# Altium footprint library Symbol.PcbLib: 206 footprints (part 3 of 15)
Each footprint in its own frame and in the unit in brackets; x right, y up, seen from the top. Pads: shape width x height; smd on the part's side, far side on the other; paste and mask are expansions set on the pad; w line width, h text height; cw(c..) or ccw(c..) is an arc to the next point about the centre after c.
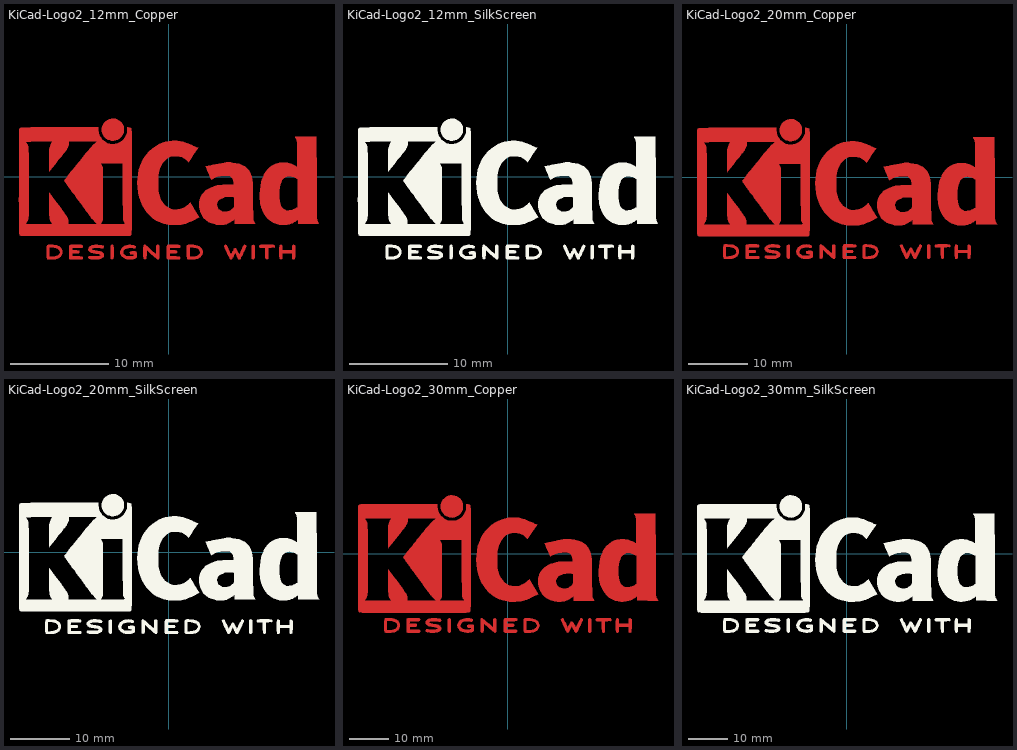
[diagram p2: the footprints below, top view; thin cyan lines are the x and y axes]

## KiCad-Logo2_12mm_Copper [mm]
F.Cu:
  region: 8.62,-6.931 8.667,-6.96 8.721,-7.004 8.721,-7.65 8.721,-7.839 8.72,-7.988 8.718,-8.102 8.715,-8.186 8.711,-8.246 8.705,-8.288 8.696,-8.315 8.685,-8.334 8.678,-8.343 8.614,-8.385 8.543,-8.383 8.48,-8.348 8.426,-8.305 8.426,-7.004 8.48,-6.96 8.531,-6.929 8.573,-6.917
  region: -5.669,-6.962 -5.656,-6.978 -5.645,-6.997 -5.637,-7.027 -5.632,-7.071 -5.628,-7.135 -5.625,-7.225 -5.624,-7.346 -5.623,-7.502 -5.623,-7.654 -5.624,-7.843 -5.624,-7.991 -5.626,-8.105 -5.628,-8.189 -5.633,-8.248 -5.639,-8.289 -5.647,-8.316 -5.658,-8.334 -5.669,-8.346 -5.735,-8.385 -5.806,-8.382 -5.869,-8.339 -5.883,-8.322 -5.895,-8.302 -5.903,-8.275 -5.91,-8.234 -5.914,-8.174 -5.916,-8.089 -5.918,-7.975 -5.918,-7.826 -5.918,-7.657 -5.918,-7.028 -5.863,-6.973 -5.794,-6.926 -5.727,-6.924
  region: -5.423,5.895 -5.218,5.824 -5.027,5.712 -4.856,5.559 -4.712,5.366 -4.648,5.244 -4.592,5.073 -4.565,4.876 -4.568,4.674 -4.601,4.49 -4.692,4.266 -4.824,4.072 -4.991,3.911 -5.185,3.787 -5.399,3.705 -5.628,3.667 -5.865,3.679 -5.981,3.704 -6.208,3.792 -6.41,3.927 -6.582,4.104 -6.718,4.319 -6.729,4.343 -6.769,4.431 -6.794,4.505 -6.808,4.583 -6.813,4.684 -6.814,4.793 -6.813,4.925 -6.806,5.019 -6.79,5.096 -6.762,5.173 -6.728,5.249 -6.599,5.464 -6.441,5.638 -6.259,5.771 -6.06,5.863 -5.85,5.915 -5.636,5.925
  region: 10.175,-6.917 10.334,-6.918 10.456,-6.92 10.549,-6.922 10.616,-6.926 10.662,-6.932 10.693,-6.94 10.713,-6.949 10.723,-6.957 10.775,-7.022 10.781,-7.09 10.749,-7.152 10.728,-7.176 10.706,-7.193 10.674,-7.204 10.623,-7.209 10.545,-7.211 10.431,-7.212 10.409,-7.212 10.116,-7.212 10.116,-7.756 10.115,-7.928 10.114,-8.06 10.112,-8.158 10.109,-8.228 10.103,-8.277 10.095,-8.308 10.084,-8.33 10.07,-8.346 10.004,-8.386 9.935,-8.383 9.872,-8.337 9.868,-8.331 9.853,-8.31 9.841,-8.285 9.833,-8.251 9.827,-8.2 9.824,-8.128 9.822,-8.028 9.821,-7.894 9.821,-7.742 9.821,-7.212 9.541,-7.212 9.421,-7.211 9.337,-7.208 9.283,-7.201 9.249,-7.19 9.226,-7.173 9.223,-7.17 9.19,-7.104 9.193,-7.028 9.231,-6.962 9.246,-6.95 9.265,-6.94 9.293,-6.932 9.335,-6.926 9.397,-6.922 9.483,-6.919 9.598,-6.918 9.748,-6.917 9.937,-6.917 9.977,-6.917
  region: 12.718,-6.928 12.781,-6.973 12.837,-7.028 12.837,-7.65 12.837,-7.835 12.836,-7.979 12.835,-8.09 12.832,-8.171 12.827,-8.229 12.82,-8.27 12.811,-8.298 12.799,-8.319 12.79,-8.331 12.728,-8.381 12.657,-8.386 12.593,-8.356 12.571,-8.338 12.557,-8.314 12.548,-8.276 12.544,-8.215 12.542,-8.122 12.542,-8.05 12.542,-7.779 11.544,-7.779 11.544,-8.025 11.543,-8.138 11.539,-8.215 11.53,-8.268 11.515,-8.305 11.497,-8.331 11.435,-8.381 11.365,-8.387 11.298,-8.352 11.279,-8.333 11.266,-8.309 11.258,-8.271 11.253,-8.212 11.25,-8.124 11.249,-8 11.249,-7.972 11.248,-7.738 11.247,-7.545 11.248,-7.389 11.249,-7.266 11.251,-7.171 11.254,-7.101 11.259,-7.05 11.265,-7.015 11.273,-6.991 11.284,-6.975 11.295,-6.962 11.359,-6.923 11.426,-6.928 11.489,-6.973 11.514,-7.002 11.53,-7.033 11.539,-7.079 11.543,-7.148 11.544,-7.252 11.544,-7.256 11.544,-7.484 12.542,-7.484 12.542,-7.246 12.543,-7.136 12.547,-7.062 12.556,-7.014 12.571,-6.982 12.588,-6.962 12.652,-6.923
  region: 2.251,-6.918 2.51,-6.926 2.73,-6.953 2.916,-6.999 3.069,-7.066 3.195,-7.155 3.297,-7.269 3.378,-7.408 3.38,-7.412 3.429,-7.537 3.446,-7.647 3.432,-7.758 3.386,-7.885 3.378,-7.905 3.319,-8.018 3.253,-8.105 3.168,-8.179 3.052,-8.253 3.045,-8.257 2.944,-8.306 2.83,-8.342 2.695,-8.367 2.532,-8.383 2.335,-8.389 2.265,-8.39 1.932,-8.391 1.885,-8.331 1.871,-8.312 1.86,-8.289 1.852,-8.257 1.846,-8.211 1.842,-8.145 1.841,-8.096 1.84,-8.054 1.838,-7.932 1.838,-7.774 1.838,-7.65 1.838,-7.028 1.894,-6.973 1.918,-6.95 1.945,-6.935 1.982,-6.925 2.039,-6.92 2.123,-6.918 2.244,-6.918 hole: 2.155,-7.212 2.155,-8.096 2.344,-8.096 2.454,-8.093 2.568,-8.085 2.661,-8.073 2.666,-8.072 2.831,-8.027 2.959,-7.961 3.055,-7.869 3.121,-7.749 3.132,-7.717 3.144,-7.667 3.139,-7.618 3.115,-7.553 3.101,-7.521 3.054,-7.435 2.997,-7.375 2.935,-7.334 2.811,-7.28 2.651,-7.24 2.466,-7.218 2.331,-7.213
  region: -12.092,-6.917 -12.013,-6.918 -11.781,-6.924 -11.586,-6.94 -11.422,-6.97 -11.283,-7.014 -11.162,-7.074 -11.052,-7.153 -11.013,-7.187 -10.948,-7.267 -10.889,-7.376 -10.844,-7.496 -10.819,-7.612 -10.817,-7.654 -10.833,-7.772 -10.876,-7.901 -10.939,-8.024 -11.013,-8.121 -11.025,-8.133 -11.126,-8.215 -11.238,-8.28 -11.366,-8.328 -11.516,-8.361 -11.695,-8.382 -11.91,-8.39 -12.008,-8.391 -12.133,-8.391 -12.221,-8.388 -12.28,-8.383 -12.319,-8.373 -12.345,-8.358 -12.359,-8.346 -12.372,-8.331 -12.383,-8.311 -12.39,-8.282 -12.396,-8.238 -12.4,-8.173 -12.402,-8.083 -12.404,-7.963 -12.404,-7.806 -12.404,-7.654 -12.405,-7.451 -12.405,-7.289 -12.403,-7.212 -12.402,-7.164 -12.393,-7.07 -12.377,-7.003 -12.35,-6.959 -12.311,-6.933 -12.256,-6.92 -12.184,-6.916 hole: -11.956,-7.212 -12.109,-7.212 -12.109,-8.096 -11.922,-8.096 -11.81,-8.093 -11.692,-8.085 -11.593,-8.073 -11.59,-8.073 -11.431,-8.034 -11.308,-7.974 -11.214,-7.889 -11.155,-7.797 -11.118,-7.694 -11.121,-7.598 -11.163,-7.495 -11.247,-7.389 -11.362,-7.31 -11.513,-7.257 -11.613,-7.238 -11.727,-7.225 -11.848,-7.216 -11.95,-7.212
  region: -2.407,-6.926 -2.359,-6.954 -2.298,-6.999 -2.218,-7.064 -2.117,-7.151 -1.992,-7.263 -1.84,-7.4 -1.666,-7.558 -1.303,-7.887 -1.292,-7.445 -1.288,-7.293 -1.284,-7.18 -1.279,-7.099 -1.273,-7.044 -1.264,-7.008 -1.252,-6.985 -1.236,-6.968 -1.227,-6.96 -1.158,-6.922 -1.092,-6.928 -1.039,-6.96 -0.986,-7.004 -0.979,-7.636 -0.977,-7.823 -0.976,-7.969 -0.976,-8.08 -0.978,-8.163 -0.982,-8.222 -0.988,-8.263 -0.996,-8.292 -1.008,-8.313 -1.02,-8.33 -1.047,-8.362 -1.074,-8.383 -1.105,-8.391 -1.143,-8.384 -1.192,-8.359 -1.256,-8.315 -1.339,-8.249 -1.443,-8.158 -1.574,-8.042 -1.723,-7.908 -2.256,-7.424 -2.267,-7.864 -2.271,-8.016 -2.275,-8.129 -2.28,-8.21 -2.286,-8.265 -2.295,-8.301 -2.307,-8.324 -2.323,-8.341 -2.332,-8.348 -2.406,-8.386 -2.476,-8.38 -2.537,-8.331 -2.551,-8.312 -2.562,-8.289 -2.571,-8.257 -2.576,-8.211 -2.58,-8.145 -2.583,-8.053 -2.584,-7.931 -2.584,-7.772 -2.584,-7.654 -2.584,-7.47 -2.584,-7.326 -2.582,-7.216 -2.579,-7.135 -2.574,-7.078 -2.568,-7.038 -2.558,-7.01 -2.546,-6.989 -2.537,-6.977 -2.515,-6.949 -2.494,-6.927 -2.471,-6.915 -2.443,-6.914
  region: -3.713,-6.928 -3.575,-6.951 -3.469,-6.987 -3.4,-7.035 -3.382,-7.061 -3.363,-7.124 -3.375,-7.181 -3.416,-7.235 -3.479,-7.26 -3.57,-7.258 -3.641,-7.244 -3.798,-7.218 -3.958,-7.216 -4.137,-7.237 -4.187,-7.246 -4.354,-7.293 -4.484,-7.363 -4.577,-7.455 -4.631,-7.567 -4.642,-7.625 -4.635,-7.743 -4.588,-7.847 -4.506,-7.935 -4.392,-8.006 -4.252,-8.058 -4.09,-8.087 -3.909,-8.093 -3.714,-8.073 -3.703,-8.071 -3.626,-8.057 -3.583,-8.043 -3.564,-8.022 -3.56,-7.988 -3.56,-7.969 -3.56,-7.892 -3.697,-7.892 -3.819,-7.884 -3.902,-7.857 -3.95,-7.81 -3.967,-7.741 -3.967,-7.731 -3.957,-7.672 -3.922,-7.629 -3.857,-7.601 -3.756,-7.584 -3.658,-7.578 -3.516,-7.575 -3.413,-7.58 -3.343,-7.6 -3.299,-7.639 -3.276,-7.703 -3.267,-7.799 -3.265,-7.924 -3.268,-8.063 -3.276,-8.158 -3.29,-8.209 -3.293,-8.213 -3.371,-8.276 -3.486,-8.326 -3.63,-8.362 -3.795,-8.383 -3.976,-8.387 -4.164,-8.374 -4.274,-8.357 -4.447,-8.308 -4.608,-8.228 -4.743,-8.124 -4.763,-8.103 -4.83,-8.016 -4.89,-7.908 -4.937,-7.794 -4.963,-7.691 -4.966,-7.651 -4.952,-7.569 -4.917,-7.466 -4.866,-7.358 -4.807,-7.259 -4.754,-7.193 -4.632,-7.095 -4.474,-7.017 -4.285,-6.96 -4.072,-6.927 -3.877,-6.919
  region: 0.668,-6.918 0.821,-6.919 0.939,-6.924 1.025,-6.931 1.085,-6.944 1.124,-6.961 1.146,-6.986 1.155,-7.017 1.158,-7.058 1.158,-7.062 1.156,-7.108 1.146,-7.143 1.124,-7.169 1.084,-7.188 1.02,-7.201 0.929,-7.209 0.804,-7.214 0.64,-7.216 0.589,-7.217 0.103,-7.223 0.096,-7.354 0.089,-7.484 0.427,-7.484 0.559,-7.485 0.653,-7.487 0.717,-7.491 0.759,-7.499 0.786,-7.511 0.805,-7.529 0.841,-7.596 0.839,-7.669 0.802,-7.731 0.795,-7.738 0.769,-7.754 0.733,-7.766 0.68,-7.773 0.602,-7.777 0.49,-7.779 0.418,-7.779 0.092,-7.779 0.092,-8.096 0.587,-8.096 0.751,-8.097 0.875,-8.098 0.966,-8.1 1.029,-8.105 1.071,-8.111 1.098,-8.121 1.116,-8.133 1.12,-8.138 1.152,-8.201 1.155,-8.273 1.128,-8.336 1.107,-8.356 1.085,-8.367 1.051,-8.376 1,-8.382 0.926,-8.386 0.823,-8.389 0.687,-8.391 0.513,-8.391 0.473,-8.391 0.295,-8.391 0.157,-8.39 0.053,-8.389 -0.022,-8.386 -0.074,-8.381 -0.109,-8.374 -0.131,-8.364 -0.148,-8.351 -0.157,-8.342 -0.171,-8.325 -0.181,-8.304 -0.189,-8.275 -0.195,-8.23 -0.199,-8.165 -0.201,-8.075 -0.203,-7.954 -0.203,-7.797 -0.203,-7.664 -0.203,-7.479 -0.202,-7.333 -0.201,-7.222 -0.198,-7.14 -0.193,-7.081 -0.187,-7.04 -0.178,-7.012 -0.166,-6.99 -0.156,-6.977 -0.109,-6.917 0.474,-6.917
  region: -9.263,-6.917 -9.123,-6.918 -9.018,-6.92 -8.941,-6.923 -8.888,-6.928 -8.852,-6.935 -8.827,-6.945 -8.809,-6.957 -8.803,-6.963 -8.763,-7.026 -8.756,-7.097 -8.782,-7.161 -8.794,-7.174 -8.814,-7.186 -8.845,-7.196 -8.894,-7.203 -8.967,-7.209 -9.069,-7.212 -9.207,-7.215 -9.333,-7.217 -9.83,-7.223 -9.837,-7.354 -9.844,-7.484 -9.506,-7.484 -9.359,-7.485 -9.252,-7.491 -9.178,-7.502 -9.131,-7.522 -9.105,-7.553 -9.095,-7.597 -9.093,-7.638 -9.098,-7.688 -9.117,-7.724 -9.155,-7.75 -9.219,-7.766 -9.314,-7.775 -9.446,-7.779 -9.518,-7.779 -9.842,-7.779 -9.842,-8.096 -9.343,-8.096 -9.179,-8.097 -9.055,-8.098 -8.964,-8.1 -8.9,-8.104 -8.856,-8.111 -8.828,-8.12 -8.808,-8.133 -8.798,-8.142 -8.764,-8.196 -8.753,-8.244 -8.769,-8.302 -8.798,-8.346 -8.814,-8.36 -8.835,-8.37 -8.865,-8.378 -8.911,-8.384 -8.978,-8.387 -9.072,-8.39 -9.197,-8.391 -9.36,-8.391 -9.445,-8.391 -9.626,-8.391 -9.767,-8.39 -9.874,-8.389 -9.952,-8.386 -10.007,-8.381 -10.043,-8.374 -10.067,-8.365 -10.084,-8.352 -10.091,-8.346 -10.104,-8.331 -10.115,-8.311 -10.123,-8.282 -10.128,-8.237 -10.132,-8.173 -10.135,-8.082 -10.136,-7.961 -10.136,-7.804 -10.136,-7.658 -10.136,-7.471 -10.136,-7.324 -10.135,-7.211 -10.132,-7.128 -10.128,-7.069 -10.122,-7.029 -10.113,-7.003 -10.102,-6.985 -10.088,-6.97 -10.084,-6.966 -10.067,-6.951 -10.046,-6.94 -10.018,-6.931 -9.975,-6.925 -9.913,-6.921 -9.825,-6.919 -9.707,-6.918 -9.552,-6.917 -9.442,-6.917
  region: 7.728,-6.921 7.767,-6.935 7.769,-6.936 7.822,-6.977 7.852,-7.019 7.857,-7.038 7.857,-7.064 7.849,-7.102 7.831,-7.155 7.802,-7.228 7.76,-7.326 7.703,-7.454 7.629,-7.616 7.588,-7.705 7.515,-7.863 7.446,-8.009 7.384,-8.136 7.332,-8.24 7.292,-8.316 7.268,-8.357 7.263,-8.363 7.2,-8.388 7.13,-8.385 7.074,-8.354 7.071,-8.352 7.049,-8.318 7.011,-8.251 6.963,-8.161 6.909,-8.056 6.889,-8.017 6.742,-7.723 6.582,-8.043 6.525,-8.153 6.472,-8.249 6.427,-8.323 6.395,-8.368 6.384,-8.377 6.301,-8.39 6.232,-8.363 6.211,-8.334 6.176,-8.27 6.129,-8.178 6.073,-8.063 6.01,-7.931 5.944,-7.79 5.878,-7.645 5.814,-7.502 5.755,-7.369 5.704,-7.25 5.665,-7.153 5.639,-7.084 5.63,-7.048 5.63,-7.047 5.652,-7.002 5.696,-6.957 5.699,-6.955 5.753,-6.924 5.804,-6.924 5.823,-6.93 5.846,-6.943 5.87,-6.967 5.899,-7.009 5.935,-7.074 5.982,-7.165 6.041,-7.29 6.095,-7.405 6.156,-7.538 6.212,-7.658 6.258,-7.758 6.292,-7.832 6.311,-7.874 6.313,-7.881 6.326,-7.87 6.354,-7.825 6.395,-7.753 6.444,-7.659 6.463,-7.62 6.53,-7.49 6.581,-7.394 6.621,-7.329 6.654,-7.289 6.685,-7.267 6.717,-7.258 6.738,-7.257 6.776,-7.261 6.808,-7.274 6.841,-7.304 6.877,-7.355 6.922,-7.433 6.981,-7.545 7.013,-7.608 7.065,-7.709 7.11,-7.792 7.145,-7.852 7.165,-7.88 7.168,-7.881 7.181,-7.859 7.21,-7.801 7.252,-7.715 7.304,-7.605 7.364,-7.478 7.393,-7.415 7.47,-7.253 7.531,-7.127 7.581,-7.036 7.623,-6.973 7.659,-6.936 7.693,-6.92
  region: -7.211,-6.92 -7.061,-6.93 -6.921,-6.947 -6.8,-6.968 -6.706,-6.995 -6.646,-7.025 -6.637,-7.034 -6.605,-7.104 -6.615,-7.175 -6.664,-7.236 -6.667,-7.238 -6.696,-7.256 -6.726,-7.266 -6.768,-7.267 -6.833,-7.26 -6.931,-7.245 -6.939,-7.243 -7.085,-7.225 -7.243,-7.217 -7.401,-7.217 -7.548,-7.225 -7.674,-7.241 -7.767,-7.266 -7.773,-7.268 -7.841,-7.306 -7.865,-7.344 -7.846,-7.382 -7.787,-7.418 -7.688,-7.451 -7.551,-7.48 -7.46,-7.494 -7.271,-7.521 -7.121,-7.546 -7.002,-7.571 -6.91,-7.597 -6.837,-7.628 -6.778,-7.665 -6.725,-7.71 -6.682,-7.755 -6.631,-7.817 -6.607,-7.87 -6.599,-7.936 -6.599,-7.96 -6.604,-8.039 -6.628,-8.099 -6.668,-8.151 -6.75,-8.232 -6.842,-8.293 -6.95,-8.338 -7.081,-8.367 -7.242,-8.383 -7.439,-8.388 -7.472,-8.388 -7.603,-8.385 -7.734,-8.379 -7.849,-8.37 -7.935,-8.36 -7.942,-8.358 -8.027,-8.338 -8.099,-8.313 -8.14,-8.289 -8.178,-8.228 -8.181,-8.156 -8.148,-8.092 -8.141,-8.085 -8.111,-8.064 -8.073,-8.055 -8.014,-8.056 -7.942,-8.064 -7.863,-8.072 -7.751,-8.078 -7.621,-8.082 -7.485,-8.084 -7.449,-8.085 -7.313,-8.084 -7.213,-8.081 -7.141,-8.076 -7.088,-8.066 -7.045,-8.052 -7.019,-8.04 -6.963,-8.006 -6.927,-7.976 -6.922,-7.967 -6.933,-7.932 -6.985,-7.898 -7.076,-7.866 -7.202,-7.839 -7.238,-7.833 -7.431,-7.802 -7.585,-7.777 -7.706,-7.755 -7.799,-7.734 -7.872,-7.713 -7.93,-7.689 -7.978,-7.661 -8.023,-7.627 -8.071,-7.585 -8.087,-7.57 -8.143,-7.515 -8.173,-7.472 -8.184,-7.422 -8.186,-7.359 -8.165,-7.236 -8.103,-7.131 -8.001,-7.045 -7.857,-6.979 -7.755,-6.949 -7.644,-6.93 -7.511,-6.919 -7.364,-6.916
  region: 0.875,3.659 1.17,3.627 1.455,3.569 1.743,3.483 2.045,3.365 2.372,3.213 2.431,3.184 2.566,3.117 2.694,3.057 2.801,3.009 2.876,2.98 2.887,2.976 2.997,2.943 2.506,2.23 2.386,2.055 2.277,1.896 2.181,1.757 2.103,1.644 2.047,1.562 2.015,1.517 2.01,1.51 1.99,1.525 1.939,1.57 1.867,1.636 1.827,1.674 1.603,1.852 1.351,1.988 1.133,2.062 1.003,2.086 0.84,2.1 0.663,2.105 0.491,2.1 0.345,2.085 0.286,2.074 0.022,1.983 -0.216,1.845 -0.427,1.659 -0.612,1.425 -0.771,1.144 -0.902,0.817 -1.007,0.443 -1.069,0.123 -1.085,-0.018 -1.096,-0.201 -1.102,-0.412 -1.103,-0.637 -1.1,-0.865 -1.091,-1.081 -1.078,-1.273 -1.06,-1.428 -1.056,-1.452 -0.972,-1.836 -0.857,-2.176 -0.71,-2.473 -0.531,-2.729 -0.404,-2.868 -0.176,-3.056 0.073,-3.195 0.341,-3.285 0.623,-3.325 0.913,-3.314 1.209,-3.251 1.384,-3.19 1.626,-3.066 1.876,-2.89 2.016,-2.77 2.094,-2.701 2.156,-2.651 2.191,-2.626 2.195,-2.625 2.211,-2.65 2.252,-2.716 2.314,-2.818 2.394,-2.949 2.488,-3.104 2.594,-3.277 2.653,-3.374 3.103,-4.112 2.541,-4.39 2.338,-4.489 2.174,-4.568 2.038,-4.629 1.921,-4.677 1.812,-4.716 1.701,-4.749 1.579,-4.781 1.461,-4.809 1.357,-4.831 1.248,-4.847 1.123,-4.859 0.972,-4.867 0.783,-4.873 0.655,-4.876 0.474,-4.877 0.3,-4.877 0.144,-4.873 0.02,-4.868 -0.063,-4.861 -0.068,-4.86 -0.497,-4.767 -0.9,-4.626 -1.276,-4.438 -1.626,-4.201 -1.95,-3.917 -2.247,-3.586 -2.462,-3.291 -2.691,-2.905 -2.876,-2.498 -3.018,-2.066 -3.118,-1.605 -3.176,-1.113 -3.195,-0.614 -3.18,-0.131 -3.132,0.315 -3.05,0.731 -2.932,1.125 -2.777,1.503 -2.759,1.543 -2.555,1.91 -2.305,2.259 -2.015,2.583 -1.693,2.875 -1.346,3.127 -1.022,3.312 -0.695,3.457 -0.368,3.562 -0.027,3.63 0.34,3.664 0.56,3.669
  region: 119 vertices and 1 holes, not listed, extent 9.262,-4.885 15.27,4.065
  region: 125 vertices and 1 holes, not listed, extent 3.089,-4.879 8.767,1.471
  region: 197 vertices and 2 holes, not listed, extent -15.24,-6.008 -3.772,5.026

## KiCad-Logo2_12mm_SilkScreen [mm]
F.SilkS:
  drawing of 17 lines, arcs and shapes, not listed

## KiCad-Logo2_20mm_Copper [mm]
F.Cu:
  region: 13.962,-11.396 14.041,-11.445 14.13,-11.517 14.13,-12.589 14.13,-12.903 14.128,-13.15 14.126,-13.339 14.121,-13.479 14.114,-13.579 14.103,-13.648 14.089,-13.693 14.071,-13.725 14.058,-13.74 13.953,-13.809 13.834,-13.806 13.73,-13.748 13.641,-13.676 13.641,-11.517 13.73,-11.445 13.815,-11.393 13.885,-11.374
  region: -9.746,-11.449 -9.724,-11.474 -9.707,-11.507 -9.694,-11.555 -9.684,-11.629 -9.678,-11.735 -9.674,-11.885 -9.672,-12.085 -9.671,-12.344 -9.671,-12.597 -9.671,-12.909 -9.672,-13.156 -9.675,-13.344 -9.679,-13.483 -9.686,-13.583 -9.696,-13.65 -9.71,-13.694 -9.728,-13.725 -9.746,-13.744 -9.856,-13.81 -9.973,-13.804 -10.078,-13.732 -10.102,-13.704 -10.121,-13.672 -10.135,-13.626 -10.146,-13.558 -10.153,-13.458 -10.157,-13.318 -10.159,-13.129 -10.16,-12.882 -10.16,-12.602 -10.16,-11.558 -10.068,-11.466 -9.954,-11.388 -9.843,-11.385
  region: -9.038,9.825 -8.696,9.707 -8.378,9.52 -8.094,9.266 -7.854,8.943 -7.746,8.74 -7.653,8.455 -7.608,8.127 -7.613,7.79 -7.668,7.484 -7.82,7.11 -8.04,6.786 -8.318,6.518 -8.641,6.312 -8.999,6.175 -9.381,6.112 -9.775,6.132 -9.969,6.173 -10.347,6.32 -10.683,6.545 -10.969,6.84 -11.196,7.198 -11.216,7.238 -11.282,7.385 -11.324,7.508 -11.346,7.639 -11.356,7.807 -11.357,7.989 -11.355,8.208 -11.343,8.366 -11.317,8.494 -11.271,8.622 -11.213,8.748 -10.999,9.106 -10.735,9.397 -10.432,9.619 -10.101,9.772 -9.751,9.858 -9.393,9.876
  region: 16.544,-11.374 16.806,-11.375 17.01,-11.378 17.163,-11.382 17.274,-11.389 17.351,-11.398 17.402,-11.411 17.436,-11.427 17.453,-11.439 17.538,-11.548 17.549,-11.66 17.496,-11.763 17.461,-11.804 17.424,-11.832 17.37,-11.849 17.285,-11.858 17.156,-11.862 16.968,-11.863 16.931,-11.863 16.444,-11.863 16.444,-12.766 16.444,-13.051 16.442,-13.27 16.439,-13.433 16.433,-13.549 16.424,-13.629 16.41,-13.682 16.392,-13.717 16.369,-13.744 16.259,-13.81 16.145,-13.805 16.041,-13.73 16.033,-13.72 16.008,-13.685 15.989,-13.644 15.975,-13.586 15.966,-13.503 15.96,-13.383 15.957,-13.217 15.955,-12.995 15.955,-12.742 15.955,-11.863 15.49,-11.863 15.291,-11.861 15.153,-11.856 15.062,-11.845 15.005,-11.827 14.968,-11.799 14.964,-11.794 14.909,-11.683 14.914,-11.558 14.977,-11.449 15.001,-11.428 15.032,-11.411 15.079,-11.398 15.149,-11.388 15.251,-11.382 15.394,-11.377 15.585,-11.375 15.834,-11.374 16.147,-11.374 16.214,-11.374
  region: 20.763,-11.392 20.867,-11.466 20.96,-11.558 20.96,-12.59 20.959,-12.896 20.958,-13.136 20.956,-13.319 20.951,-13.455 20.943,-13.551 20.932,-13.618 20.917,-13.664 20.897,-13.699 20.882,-13.72 20.779,-13.802 20.662,-13.811 20.554,-13.761 20.519,-13.731 20.495,-13.692 20.481,-13.628 20.473,-13.527 20.471,-13.372 20.471,-13.253 20.471,-12.803 18.815,-12.803 18.815,-13.212 18.813,-13.399 18.806,-13.528 18.792,-13.615 18.767,-13.676 18.737,-13.72 18.634,-13.802 18.517,-13.812 18.406,-13.754 18.375,-13.723 18.354,-13.683 18.34,-13.62 18.331,-13.522 18.327,-13.376 18.325,-13.171 18.325,-13.123 18.323,-12.735 18.322,-12.416 18.322,-12.157 18.324,-11.953 18.328,-11.796 18.333,-11.678 18.341,-11.594 18.352,-11.536 18.365,-11.497 18.382,-11.469 18.401,-11.449 18.507,-11.383 18.618,-11.392 18.722,-11.466 18.765,-11.514 18.792,-11.567 18.807,-11.642 18.813,-11.757 18.815,-11.929 18.815,-11.936 18.815,-12.314 20.471,-12.314 20.471,-11.919 20.472,-11.737 20.479,-11.614 20.493,-11.534 20.518,-11.481 20.546,-11.449 20.652,-11.383
  region: 3.394,-11.374 3.824,-11.389 4.19,-11.433 4.497,-11.509 4.753,-11.62 4.962,-11.769 5.131,-11.957 5.266,-12.189 5.268,-12.195 5.349,-12.402 5.377,-12.585 5.354,-12.77 5.279,-12.98 5.265,-13.012 5.167,-13.2 5.058,-13.345 4.917,-13.468 4.724,-13.59 4.713,-13.597 4.545,-13.677 4.355,-13.738 4.132,-13.779 3.862,-13.805 3.534,-13.817 3.418,-13.818 2.865,-13.819 2.787,-13.72 2.764,-13.688 2.746,-13.65 2.733,-13.597 2.723,-13.521 2.716,-13.411 2.714,-13.33 2.712,-13.26 2.71,-13.058 2.709,-12.795 2.709,-12.59 2.709,-11.558 2.802,-11.466 2.843,-11.428 2.887,-11.403 2.949,-11.387 3.043,-11.378 3.182,-11.375 3.382,-11.374 hole: 3.236,-11.863 3.236,-13.33 3.549,-13.33 3.732,-13.325 3.92,-13.311 4.074,-13.291 4.084,-13.289 4.358,-13.216 4.57,-13.105 4.728,-12.953 4.838,-12.753 4.857,-12.7 4.876,-12.618 4.868,-12.536 4.828,-12.428 4.804,-12.375 4.727,-12.233 4.633,-12.134 4.53,-12.065 4.323,-11.975 4.059,-11.91 3.751,-11.872 3.528,-11.864
  region: -20.405,-11.374 -20.273,-11.375 -19.887,-11.384 -19.564,-11.412 -19.293,-11.461 -19.062,-11.534 -18.861,-11.634 -18.679,-11.765 -18.614,-11.822 -18.506,-11.955 -18.408,-12.135 -18.333,-12.334 -18.292,-12.526 -18.288,-12.597 -18.315,-12.793 -18.386,-13.007 -18.49,-13.209 -18.613,-13.371 -18.633,-13.391 -18.802,-13.528 -18.987,-13.635 -19.199,-13.715 -19.448,-13.77 -19.746,-13.803 -20.102,-13.818 -20.265,-13.819 -20.473,-13.818 -20.618,-13.814 -20.716,-13.805 -20.78,-13.789 -20.824,-13.765 -20.847,-13.744 -20.869,-13.719 -20.886,-13.686 -20.899,-13.638 -20.908,-13.564 -20.915,-13.458 -20.919,-13.308 -20.921,-13.108 -20.922,-12.849 -20.922,-12.597 -20.923,-12.26 -20.923,-11.991 -20.92,-11.863 -20.918,-11.783 -20.903,-11.627 -20.876,-11.516 -20.832,-11.443 -20.767,-11.399 -20.676,-11.378 -20.557,-11.372 hole: -20.179,-11.863 -20.433,-11.863 -20.433,-13.33 -20.122,-13.33 -19.936,-13.325 -19.74,-13.311 -19.577,-13.292 -19.572,-13.291 -19.308,-13.227 -19.103,-13.128 -18.948,-12.986 -18.849,-12.833 -18.788,-12.663 -18.793,-12.504 -18.863,-12.333 -19.002,-12.156 -19.193,-12.025 -19.442,-11.938 -19.609,-11.907 -19.798,-11.885 -19.998,-11.869 -20.169,-11.863
  region: -4.334,-11.388 -4.255,-11.434 -4.152,-11.51 -4.02,-11.618 -3.853,-11.762 -3.646,-11.947 -3.394,-12.175 -3.104,-12.437 -2.502,-12.983 -2.484,-12.25 -2.477,-11.998 -2.47,-11.81 -2.462,-11.676 -2.452,-11.584 -2.437,-11.524 -2.417,-11.486 -2.39,-11.457 -2.376,-11.445 -2.261,-11.382 -2.151,-11.391 -2.064,-11.445 -1.976,-11.517 -1.965,-12.567 -1.961,-12.876 -1.96,-13.118 -1.96,-13.304 -1.963,-13.441 -1.97,-13.539 -1.979,-13.608 -1.994,-13.655 -2.012,-13.69 -2.033,-13.718 -2.078,-13.771 -2.123,-13.805 -2.174,-13.819 -2.237,-13.807 -2.318,-13.766 -2.424,-13.693 -2.561,-13.583 -2.735,-13.433 -2.952,-13.24 -3.199,-13.017 -4.083,-12.215 -4.102,-12.945 -4.108,-13.197 -4.115,-13.385 -4.123,-13.518 -4.133,-13.61 -4.148,-13.669 -4.168,-13.708 -4.195,-13.736 -4.209,-13.748 -4.333,-13.811 -4.449,-13.802 -4.55,-13.72 -4.574,-13.688 -4.592,-13.649 -4.605,-13.597 -4.615,-13.52 -4.622,-13.41 -4.626,-13.258 -4.628,-13.055 -4.628,-12.792 -4.628,-12.597 -4.628,-12.291 -4.627,-12.052 -4.624,-11.87 -4.619,-11.736 -4.612,-11.64 -4.601,-11.574 -4.585,-11.528 -4.565,-11.493 -4.55,-11.473 -4.513,-11.426 -4.478,-11.39 -4.44,-11.37 -4.393,-11.368
  region: -6.5,-11.392 -6.272,-11.43 -6.096,-11.49 -5.982,-11.568 -5.951,-11.613 -5.92,-11.717 -5.941,-11.811 -6.008,-11.901 -6.112,-11.942 -6.264,-11.939 -6.381,-11.916 -6.641,-11.873 -6.907,-11.869 -7.205,-11.904 -7.287,-11.919 -7.564,-11.997 -7.781,-12.113 -7.935,-12.265 -8.024,-12.452 -8.042,-12.548 -8.03,-12.743 -7.952,-12.916 -7.816,-13.063 -7.628,-13.181 -7.396,-13.266 -7.126,-13.315 -6.826,-13.325 -6.503,-13.292 -6.485,-13.289 -6.356,-13.265 -6.285,-13.242 -6.254,-13.207 -6.247,-13.15 -6.247,-13.119 -6.247,-12.992 -6.475,-12.992 -6.676,-12.978 -6.814,-12.934 -6.894,-12.856 -6.923,-12.74 -6.923,-12.725 -6.906,-12.626 -6.848,-12.555 -6.74,-12.508 -6.572,-12.481 -6.41,-12.471 -6.175,-12.465 -6.004,-12.474 -5.887,-12.506 -5.815,-12.571 -5.776,-12.678 -5.76,-12.836 -5.757,-13.044 -5.762,-13.275 -5.776,-13.433 -5.8,-13.517 -5.804,-13.523 -5.934,-13.628 -6.124,-13.712 -6.363,-13.771 -6.638,-13.805 -6.937,-13.812 -7.249,-13.79 -7.432,-13.763 -7.719,-13.682 -7.986,-13.549 -8.21,-13.376 -8.244,-13.342 -8.354,-13.197 -8.454,-13.017 -8.531,-12.829 -8.574,-12.658 -8.58,-12.592 -8.557,-12.455 -8.499,-12.284 -8.414,-12.105 -8.316,-11.941 -8.229,-11.831 -8.026,-11.668 -7.763,-11.538 -7.451,-11.445 -7.097,-11.391 -6.773,-11.377
  region: 0.768,-11.374 1.022,-11.377 1.217,-11.384 1.361,-11.397 1.461,-11.418 1.525,-11.447 1.561,-11.487 1.577,-11.54 1.58,-11.607 1.58,-11.614 1.577,-11.69 1.561,-11.748 1.524,-11.792 1.458,-11.823 1.353,-11.844 1.201,-11.857 0.993,-11.865 0.721,-11.87 0.638,-11.871 -0.169,-11.882 -0.181,-12.098 -0.192,-12.314 0.369,-12.314 0.588,-12.315 0.744,-12.319 0.85,-12.326 0.919,-12.339 0.964,-12.359 0.996,-12.388 1.055,-12.5 1.052,-12.621 0.991,-12.725 0.979,-12.735 0.936,-12.763 0.877,-12.782 0.789,-12.794 0.658,-12.801 0.472,-12.803 0.353,-12.803 -0.188,-12.803 -0.188,-13.33 0.634,-13.33 0.905,-13.331 1.111,-13.333 1.262,-13.337 1.367,-13.344 1.437,-13.355 1.482,-13.371 1.511,-13.392 1.518,-13.399 1.572,-13.504 1.576,-13.624 1.532,-13.728 1.497,-13.761 1.46,-13.779 1.404,-13.793 1.319,-13.804 1.196,-13.811 1.026,-13.816 0.8,-13.819 0.51,-13.819 0.445,-13.819 0.15,-13.819 -0.079,-13.818 -0.251,-13.816 -0.376,-13.811 -0.463,-13.802 -0.52,-13.791 -0.558,-13.774 -0.586,-13.753 -0.601,-13.737 -0.623,-13.71 -0.641,-13.676 -0.654,-13.626 -0.664,-13.552 -0.67,-13.445 -0.674,-13.295 -0.676,-13.094 -0.677,-12.833 -0.677,-12.613 -0.677,-12.305 -0.676,-12.064 -0.673,-11.879 -0.669,-11.743 -0.661,-11.645 -0.65,-11.577 -0.635,-11.53 -0.616,-11.495 -0.599,-11.473 -0.521,-11.374 0.446,-11.374
  region: -15.709,-11.374 -15.478,-11.375 -15.303,-11.378 -15.176,-11.383 -15.087,-11.391 -15.027,-11.403 -14.987,-11.419 -14.957,-11.441 -14.946,-11.45 -14.88,-11.554 -14.868,-11.673 -14.912,-11.778 -14.932,-11.8 -14.964,-11.82 -15.016,-11.836 -15.098,-11.848 -15.219,-11.857 -15.389,-11.864 -15.617,-11.868 -15.825,-11.871 -16.651,-11.882 -16.662,-12.098 -16.674,-12.314 -16.113,-12.314 -15.87,-12.316 -15.692,-12.325 -15.569,-12.344 -15.491,-12.378 -15.448,-12.429 -15.431,-12.502 -15.428,-12.569 -15.436,-12.652 -15.468,-12.713 -15.531,-12.755 -15.637,-12.782 -15.795,-12.797 -16.013,-12.803 -16.133,-12.803 -16.67,-12.803 -16.67,-13.33 -15.842,-13.33 -15.571,-13.331 -15.364,-13.332 -15.213,-13.336 -15.107,-13.343 -15.035,-13.354 -14.988,-13.369 -14.956,-13.39 -14.939,-13.406 -14.882,-13.495 -14.864,-13.575 -14.89,-13.672 -14.939,-13.744 -14.965,-13.767 -14.999,-13.784 -15.049,-13.798 -15.126,-13.807 -15.237,-13.813 -15.392,-13.817 -15.601,-13.819 -15.871,-13.819 -16.011,-13.819 -16.312,-13.819 -16.546,-13.818 -16.724,-13.815 -16.853,-13.81 -16.944,-13.802 -17.004,-13.791 -17.044,-13.775 -17.073,-13.755 -17.084,-13.744 -17.106,-13.719 -17.123,-13.686 -17.136,-13.637 -17.146,-13.564 -17.152,-13.457 -17.156,-13.307 -17.158,-13.106 -17.159,-12.846 -17.159,-12.603 -17.159,-12.292 -17.158,-12.048 -17.156,-11.862 -17.152,-11.724 -17.145,-11.626 -17.135,-11.56 -17.121,-11.516 -17.102,-11.486 -17.078,-11.461 -17.072,-11.455 -17.043,-11.431 -17.01,-11.411 -16.962,-11.397 -16.891,-11.387 -16.788,-11.38 -16.643,-11.376 -16.446,-11.374 -16.189,-11.374 -16.007,-11.374
  region: 12.482,-11.38 12.548,-11.403 12.55,-11.405 12.639,-11.472 12.688,-11.542 12.697,-11.575 12.697,-11.618 12.683,-11.68 12.654,-11.768 12.606,-11.889 12.535,-12.052 12.441,-12.265 12.318,-12.534 12.251,-12.681 12.129,-12.943 12.014,-13.185 11.912,-13.396 11.825,-13.569 11.76,-13.694 11.719,-13.763 11.711,-13.772 11.607,-13.814 11.49,-13.809 11.397,-13.758 11.393,-13.754 11.356,-13.697 11.293,-13.587 11.213,-13.438 11.123,-13.263 11.091,-13.199 10.847,-12.711 10.581,-13.241 10.486,-13.425 10.398,-13.584 10.324,-13.706 10.271,-13.78 10.253,-13.796 10.114,-13.817 9.999,-13.772 9.966,-13.725 9.907,-13.619 9.829,-13.465 9.736,-13.274 9.632,-13.056 9.523,-12.822 9.413,-12.581 9.306,-12.345 9.209,-12.123 9.125,-11.926 9.059,-11.765 9.016,-11.65 9.001,-11.591 9.001,-11.589 9.038,-11.515 9.111,-11.439 9.116,-11.436 9.206,-11.385 9.29,-11.385 9.321,-11.395 9.359,-11.416 9.4,-11.457 9.448,-11.526 9.508,-11.633 9.585,-11.786 9.683,-11.992 9.772,-12.183 9.875,-12.404 9.967,-12.603 10.043,-12.769 10.099,-12.892 10.131,-12.962 10.135,-12.973 10.156,-12.955 10.203,-12.88 10.27,-12.76 10.352,-12.604 10.384,-12.54 10.494,-12.323 10.579,-12.166 10.645,-12.057 10.701,-11.99 10.752,-11.954 10.805,-11.94 10.84,-11.938 10.902,-11.943 10.956,-11.966 11.01,-12.015 11.071,-12.1 11.146,-12.23 11.242,-12.415 11.296,-12.52 11.382,-12.687 11.457,-12.826 11.515,-12.924 11.548,-12.971 11.553,-12.973 11.574,-12.936 11.622,-12.841 11.692,-12.697 11.779,-12.515 11.878,-12.305 11.927,-12.2 12.054,-11.93 12.156,-11.723 12.239,-11.57 12.308,-11.467 12.368,-11.405 12.424,-11.378
  region: -12.306,-11.378 -12.056,-11.395 -11.824,-11.423 -11.623,-11.458 -11.467,-11.502 -11.368,-11.553 -11.353,-11.568 -11.3,-11.683 -11.316,-11.801 -11.398,-11.902 -11.402,-11.905 -11.45,-11.937 -11.5,-11.953 -11.57,-11.955 -11.678,-11.943 -11.84,-11.917 -11.853,-11.915 -12.096,-11.885 -12.357,-11.871 -12.62,-11.87 -12.865,-11.884 -13.073,-11.912 -13.228,-11.952 -13.238,-11.956 -13.35,-12.019 -13.39,-12.082 -13.359,-12.145 -13.26,-12.204 -13.096,-12.259 -12.87,-12.308 -12.719,-12.331 -12.405,-12.376 -12.155,-12.417 -11.959,-12.458 -11.806,-12.502 -11.685,-12.553 -11.586,-12.614 -11.498,-12.689 -11.427,-12.763 -11.344,-12.866 -11.302,-12.954 -11.289,-13.063 -11.289,-13.103 -11.299,-13.236 -11.337,-13.334 -11.404,-13.422 -11.541,-13.555 -11.693,-13.657 -11.872,-13.731 -12.089,-13.779 -12.356,-13.806 -12.684,-13.814 -12.738,-13.814 -12.956,-13.809 -13.173,-13.799 -13.364,-13.785 -13.506,-13.767 -13.518,-13.765 -13.659,-13.732 -13.779,-13.689 -13.847,-13.651 -13.91,-13.549 -13.915,-13.43 -13.86,-13.324 -13.848,-13.312 -13.798,-13.276 -13.735,-13.261 -13.637,-13.264 -13.519,-13.277 -13.387,-13.289 -13.201,-13.299 -12.985,-13.307 -12.759,-13.311 -12.7,-13.311 -12.474,-13.31 -12.308,-13.305 -12.189,-13.296 -12.101,-13.28 -12.03,-13.256 -11.987,-13.236 -11.893,-13.181 -11.834,-13.131 -11.825,-13.116 -11.843,-13.058 -11.931,-13.001 -12.082,-12.948 -12.289,-12.903 -12.351,-12.893 -12.67,-12.842 -12.925,-12.8 -13.126,-12.764 -13.282,-12.729 -13.402,-12.694 -13.498,-12.654 -13.578,-12.608 -13.652,-12.551 -13.731,-12.481 -13.758,-12.457 -13.851,-12.366 -13.901,-12.293 -13.92,-12.211 -13.923,-12.107 -13.889,-11.902 -13.786,-11.729 -13.615,-11.587 -13.378,-11.476 -13.208,-11.427 -13.024,-11.395 -12.803,-11.376 -12.559,-11.371
  region: 1.459,6.099 1.95,6.045 2.425,5.949 2.905,5.805 3.408,5.609 3.953,5.355 4.052,5.306 4.277,5.195 4.49,5.095 4.669,5.016 4.793,4.966 4.812,4.96 4.995,4.905 4.177,3.716 3.977,3.425 3.794,3.16 3.635,2.928 3.505,2.74 3.411,2.604 3.359,2.529 3.35,2.517 3.316,2.541 3.231,2.616 3.112,2.727 3.046,2.79 2.671,3.087 2.251,3.314 1.889,3.437 1.672,3.476 1.399,3.5 1.105,3.508 0.819,3.5 0.574,3.476 0.477,3.457 0.037,3.306 -0.359,3.075 -0.712,2.764 -1.02,2.375 -1.284,1.907 -1.504,1.362 -1.678,0.738 -1.782,0.205 -1.809,-0.031 -1.827,-0.335 -1.837,-0.686 -1.839,-1.062 -1.833,-1.442 -1.818,-1.802 -1.796,-2.122 -1.767,-2.38 -1.761,-2.42 -1.62,-3.06 -1.428,-3.626 -1.183,-4.122 -0.885,-4.549 -0.674,-4.78 -0.294,-5.093 0.122,-5.325 0.569,-5.475 1.038,-5.542 1.522,-5.523 2.016,-5.418 2.307,-5.316 2.711,-5.111 3.127,-4.816 3.36,-4.617 3.491,-4.502 3.593,-4.418 3.652,-4.377 3.659,-4.376 3.685,-4.417 3.753,-4.527 3.856,-4.696 3.99,-4.915 4.147,-5.173 4.324,-5.462 4.422,-5.623 5.171,-6.854 4.236,-7.316 3.897,-7.482 3.623,-7.613 3.397,-7.715 3.201,-7.795 3.019,-7.86 2.835,-7.916 2.631,-7.968 2.435,-8.015 2.261,-8.051 2.08,-8.078 1.872,-8.098 1.62,-8.112 1.305,-8.122 1.092,-8.126 0.79,-8.129 0.499,-8.128 0.241,-8.122 0.033,-8.113 -0.105,-8.101 -0.113,-8.1 -0.828,-7.945 -1.499,-7.711 -2.127,-7.396 -2.71,-7.002 -3.25,-6.529 -3.744,-5.976 -4.103,-5.485 -4.484,-4.842 -4.793,-4.163 -5.029,-3.443 -5.196,-2.675 -5.294,-1.855 -5.325,-1.023 -5.3,-0.218 -5.22,0.525 -5.083,1.218 -4.887,1.874 -4.629,2.506 -4.598,2.571 -4.258,3.183 -3.841,3.764 -3.358,4.305 -2.821,4.791 -2.243,5.212 -1.703,5.52 -1.158,5.762 -0.613,5.937 -0.044,6.051 0.567,6.107 0.933,6.115
  region: 118 vertices and 1 holes, not listed, extent 15.437,-8.141 25.45,6.774
  region: 125 vertices and 1 holes, not listed, extent 5.148,-8.131 14.612,2.452
  region: 197 vertices and 2 holes, not listed, extent -25.4,-10.013 -6.287,8.376

## KiCad-Logo2_20mm_SilkScreen [mm]
F.SilkS:
  drawing of 17 lines, arcs and shapes, not listed

## KiCad-Logo2_30mm_Copper [mm]
F.Cu:
  region: 20.943,-16.459 21.062,-16.533 21.195,-16.641 21.195,-18.249 21.194,-18.719 21.193,-19.09 21.189,-19.374 21.182,-19.584 21.171,-19.734 21.155,-19.836 21.134,-19.905 21.107,-19.952 21.087,-19.975 20.93,-20.078 20.751,-20.074 20.594,-19.986 20.461,-19.878 20.461,-16.641 20.594,-16.533 20.723,-16.455 20.828,-16.425
  region: -14.619,-16.538 -14.586,-16.576 -14.56,-16.625 -14.541,-16.698 -14.527,-16.808 -14.517,-16.968 -14.511,-17.192 -14.508,-17.492 -14.506,-17.881 -14.506,-18.26 -14.507,-18.729 -14.508,-19.098 -14.512,-19.381 -14.519,-19.59 -14.529,-19.739 -14.544,-19.84 -14.565,-19.907 -14.593,-19.952 -14.619,-19.981 -14.784,-20.08 -14.96,-20.071 -15.117,-19.964 -15.153,-19.922 -15.182,-19.873 -15.203,-19.804 -15.218,-19.702 -15.229,-19.553 -15.235,-19.343 -15.239,-19.059 -15.24,-18.688 -15.24,-18.268 -15.24,-16.702 -15.101,-16.564 -14.931,-16.447 -14.765,-16.443
  region: -13.557,14.738 -13.044,14.56 -12.567,14.28 -12.141,13.898 -11.781,13.415 -11.619,13.11 -11.48,12.683 -11.412,12.191 -11.419,11.684 -11.503,11.226 -11.73,10.665 -12.061,10.179 -12.477,9.777 -12.961,9.468 -13.499,9.262 -14.071,9.168 -14.662,9.197 -14.953,9.259 -15.521,9.48 -16.025,9.817 -16.454,10.26 -16.795,10.798 -16.823,10.856 -16.923,11.077 -16.986,11.263 -17.02,11.459 -17.033,11.71 -17.036,11.983 -17.032,12.311 -17.015,12.549 -16.976,12.741 -16.906,12.933 -16.82,13.122 -16.498,13.66 -16.103,14.095 -15.648,14.428 -15.151,14.659 -14.626,14.787 -14.09,14.814
  region: 24.815,-16.426 25.209,-16.428 25.514,-16.432 25.744,-16.438 25.911,-16.448 26.026,-16.463 26.103,-16.481 26.154,-16.506 26.179,-16.524 26.307,-16.687 26.323,-16.856 26.244,-17.009 26.192,-17.07 26.136,-17.112 26.055,-17.138 25.928,-17.152 25.734,-17.158 25.451,-17.159 25.396,-17.159 24.666,-17.159 24.666,-18.514 24.666,-18.941 24.664,-19.269 24.659,-19.514 24.65,-19.689 24.636,-19.809 24.616,-19.888 24.588,-19.941 24.553,-19.981 24.389,-20.081 24.217,-20.073 24.061,-19.96 24.049,-19.945 24.012,-19.892 23.984,-19.83 23.963,-19.744 23.949,-19.619 23.94,-19.439 23.935,-19.19 23.933,-18.857 23.932,-18.478 23.932,-17.159 23.236,-17.159 22.937,-17.157 22.73,-17.149 22.594,-17.133 22.508,-17.105 22.452,-17.063 22.445,-17.056 22.364,-16.89 22.371,-16.702 22.465,-16.538 22.501,-16.506 22.548,-16.481 22.618,-16.462 22.723,-16.448 22.877,-16.438 23.091,-16.431 23.378,-16.427 23.751,-16.426 24.221,-16.425 24.321,-16.425
  region: 31.144,-16.453 31.301,-16.564 31.44,-16.702 31.44,-18.25 31.439,-18.709 31.437,-19.069 31.433,-19.344 31.426,-19.547 31.415,-19.692 31.398,-19.792 31.376,-19.862 31.346,-19.914 31.323,-19.945 31.169,-20.068 30.992,-20.082 30.831,-20.006 30.778,-19.962 30.742,-19.903 30.721,-19.808 30.71,-19.655 30.706,-19.423 30.706,-19.244 30.706,-18.57 28.222,-18.57 28.222,-19.183 28.22,-19.464 28.209,-19.657 28.188,-19.787 28.15,-19.879 28.105,-19.945 27.951,-20.068 27.776,-20.083 27.609,-19.995 27.563,-19.95 27.531,-19.889 27.509,-19.795 27.497,-19.648 27.49,-19.43 27.487,-19.121 27.487,-19.05 27.484,-18.468 27.483,-17.989 27.484,-17.601 27.486,-17.294 27.491,-17.058 27.5,-16.883 27.511,-16.756 27.527,-16.669 27.548,-16.61 27.573,-16.569 27.601,-16.538 27.761,-16.439 27.927,-16.453 28.084,-16.564 28.147,-16.636 28.188,-16.715 28.21,-16.828 28.22,-17 28.222,-17.259 28.222,-17.269 28.222,-17.836 30.706,-17.836 30.706,-17.244 30.708,-16.971 30.718,-16.786 30.74,-16.667 30.777,-16.587 30.819,-16.538 30.978,-16.439
  region: 5.092,-16.426 5.736,-16.448 6.285,-16.514 6.746,-16.629 7.129,-16.795 7.443,-17.018 7.696,-17.301 7.898,-17.648 7.902,-17.657 8.023,-17.967 8.066,-18.243 8.031,-18.519 7.918,-18.835 7.897,-18.883 7.751,-19.165 7.587,-19.382 7.375,-19.567 7.086,-19.751 7.069,-19.76 6.818,-19.881 6.533,-19.971 6.198,-20.034 5.793,-20.073 5.3,-20.09 5.126,-20.091 4.298,-20.094 4.181,-19.945 4.146,-19.897 4.119,-19.839 4.099,-19.76 4.084,-19.646 4.074,-19.482 4.071,-19.36 4.068,-19.255 4.065,-18.952 4.064,-18.558 4.064,-18.25 4.064,-16.702 4.203,-16.564 4.264,-16.508 4.331,-16.469 4.423,-16.445 4.564,-16.432 4.774,-16.427 5.074,-16.426 hole: 4.854,-17.159 4.854,-19.36 5.324,-19.36 5.598,-19.352 5.88,-19.331 6.112,-19.301 6.126,-19.299 6.537,-19.189 6.856,-19.023 7.092,-18.794 7.257,-18.495 7.286,-18.415 7.314,-18.292 7.301,-18.17 7.242,-18.007 7.207,-17.927 7.09,-17.715 6.949,-17.566 6.795,-17.463 6.485,-17.328 6.088,-17.23 5.626,-17.174 5.292,-17.161
  region: -30.607,-16.425 -30.409,-16.427 -29.831,-16.441 -29.347,-16.483 -28.94,-16.556 -28.594,-16.666 -28.292,-16.817 -28.019,-17.013 -27.921,-17.098 -27.759,-17.297 -27.613,-17.567 -27.5,-17.867 -27.438,-18.154 -27.432,-18.26 -27.472,-18.554 -27.579,-18.875 -27.735,-19.179 -27.919,-19.422 -27.949,-19.451 -28.203,-19.657 -28.481,-19.817 -28.798,-19.937 -29.172,-20.02 -29.619,-20.07 -30.153,-20.092 -30.398,-20.094 -30.709,-20.093 -30.928,-20.086 -31.075,-20.073 -31.17,-20.049 -31.235,-20.013 -31.27,-19.981 -31.303,-19.943 -31.329,-19.895 -31.349,-19.822 -31.363,-19.712 -31.372,-19.551 -31.378,-19.328 -31.382,-19.028 -31.383,-18.638 -31.383,-18.26 -31.384,-17.755 -31.384,-17.352 -31.379,-17.159 -31.376,-17.039 -31.355,-16.805 -31.314,-16.639 -31.248,-16.529 -31.15,-16.464 -31.014,-16.432 -30.835,-16.423 hole: -30.268,-17.159 -30.649,-17.159 -30.649,-19.36 -30.184,-19.36 -29.903,-19.352 -29.61,-19.331 -29.365,-19.302 -29.358,-19.301 -28.962,-19.205 -28.655,-19.056 -28.422,-18.844 -28.273,-18.615 -28.182,-18.36 -28.189,-18.121 -28.295,-17.865 -28.502,-17.599 -28.79,-17.403 -29.164,-17.272 -29.414,-17.225 -29.697,-17.193 -29.998,-17.169 -30.253,-17.159
  region: -6.501,-16.447 -6.383,-16.516 -6.229,-16.629 -6.03,-16.792 -5.78,-17.009 -5.469,-17.285 -5.09,-17.627 -4.657,-18.02 -3.754,-18.839 -3.725,-17.74 -3.715,-17.362 -3.705,-17.08 -3.694,-16.879 -3.678,-16.741 -3.656,-16.652 -3.626,-16.594 -3.585,-16.551 -3.564,-16.533 -3.391,-16.438 -3.227,-16.452 -3.097,-16.533 -2.963,-16.641 -2.947,-18.216 -2.942,-18.679 -2.94,-19.043 -2.941,-19.321 -2.945,-19.527 -2.954,-19.674 -2.969,-19.776 -2.99,-19.847 -3.018,-19.9 -3.05,-19.942 -3.117,-20.021 -3.184,-20.073 -3.261,-20.093 -3.355,-20.075 -3.477,-20.014 -3.636,-19.904 -3.842,-19.74 -4.103,-19.515 -4.429,-19.224 -4.798,-18.89 -6.124,-17.687 -6.152,-18.783 -6.163,-19.161 -6.173,-19.442 -6.184,-19.643 -6.2,-19.779 -6.222,-19.869 -6.252,-19.926 -6.293,-19.969 -6.314,-19.986 -6.499,-20.082 -6.674,-20.067 -6.826,-19.945 -6.86,-19.896 -6.888,-19.839 -6.908,-19.76 -6.923,-19.645 -6.932,-19.48 -6.938,-19.253 -6.941,-18.948 -6.943,-18.552 -6.943,-18.26 -6.942,-17.802 -6.941,-17.443 -6.937,-17.17 -6.929,-16.969 -6.918,-16.825 -6.901,-16.725 -6.878,-16.656 -6.848,-16.604 -6.826,-16.574 -6.769,-16.503 -6.717,-16.45 -6.659,-16.419 -6.59,-16.417
  region: -9.75,-16.453 -9.408,-16.51 -9.145,-16.6 -8.974,-16.717 -8.927,-16.785 -8.879,-16.941 -8.911,-17.082 -9.012,-17.216 -9.169,-17.279 -9.396,-17.273 -9.572,-17.24 -9.962,-17.175 -10.361,-17.169 -10.808,-17.221 -10.931,-17.243 -11.346,-17.361 -11.671,-17.535 -11.902,-17.763 -12.036,-18.042 -12.063,-18.187 -12.045,-18.48 -11.929,-18.739 -11.724,-18.96 -11.442,-19.136 -11.094,-19.264 -10.689,-19.338 -10.239,-19.352 -9.755,-19.303 -9.727,-19.298 -9.534,-19.262 -9.427,-19.228 -9.381,-19.176 -9.37,-19.09 -9.37,-19.044 -9.37,-18.852 -9.712,-18.852 -10.014,-18.832 -10.221,-18.766 -10.341,-18.649 -10.384,-18.475 -10.385,-18.452 -10.359,-18.303 -10.272,-18.197 -10.11,-18.127 -9.859,-18.086 -9.616,-18.071 -9.262,-18.062 -9.006,-18.075 -8.831,-18.124 -8.722,-18.222 -8.664,-18.382 -8.64,-18.619 -8.636,-18.93 -8.643,-19.278 -8.664,-19.514 -8.7,-19.64 -8.707,-19.65 -8.901,-19.808 -9.186,-19.932 -9.544,-20.022 -9.957,-20.073 -10.406,-20.083 -10.873,-20.05 -11.148,-20.01 -11.579,-19.888 -11.979,-19.688 -12.315,-19.429 -12.366,-19.378 -12.532,-19.16 -12.681,-18.891 -12.797,-18.608 -12.861,-18.351 -12.869,-18.253 -12.836,-18.047 -12.748,-17.791 -12.621,-17.522 -12.474,-17.276 -12.344,-17.112 -12.039,-16.867 -11.645,-16.673 -11.176,-16.532 -10.646,-16.451 -10.16,-16.431
  region: 1.152,-16.426 1.534,-16.431 1.826,-16.442 2.041,-16.461 2.191,-16.491 2.287,-16.535 2.341,-16.596 2.365,-16.675 2.371,-16.775 2.371,-16.787 2.366,-16.9 2.342,-16.988 2.287,-17.053 2.187,-17.1 2.029,-17.131 1.801,-17.151 1.49,-17.163 1.081,-17.17 0.956,-17.172 -0.254,-17.187 -0.271,-17.512 -0.288,-17.836 0.553,-17.836 0.881,-17.838 1.116,-17.843 1.275,-17.854 1.379,-17.874 1.445,-17.904 1.494,-17.947 1.582,-18.116 1.579,-18.297 1.487,-18.452 1.468,-18.468 1.404,-18.509 1.315,-18.538 1.183,-18.556 0.987,-18.566 0.708,-18.57 0.53,-18.57 -0.282,-18.57 -0.282,-19.36 0.951,-19.36 1.358,-19.361 1.667,-19.364 1.893,-19.37 2.051,-19.381 2.156,-19.398 2.223,-19.421 2.266,-19.452 2.277,-19.464 2.358,-19.621 2.364,-19.801 2.298,-19.956 2.245,-20.006 2.191,-20.034 2.106,-20.055 1.978,-20.071 1.794,-20.082 1.539,-20.089 1.2,-20.093 0.765,-20.094 0.667,-20.094 0.225,-20.094 -0.119,-20.092 -0.377,-20.088 -0.564,-20.081 -0.694,-20.069 -0.78,-20.051 -0.837,-20.026 -0.878,-19.994 -0.901,-19.971 -0.935,-19.929 -0.961,-19.878 -0.981,-19.804 -0.996,-19.693 -1.006,-19.532 -1.012,-19.307 -1.015,-19.006 -1.016,-18.615 -1.016,-18.285 -1.016,-17.823 -1.014,-17.461 -1.01,-17.184 -1.003,-16.979 -0.992,-16.832 -0.975,-16.731 -0.953,-16.66 -0.924,-16.607 -0.899,-16.574 -0.782,-16.425 0.669,-16.425
  region: -23.564,-16.426 -23.217,-16.428 -22.955,-16.432 -22.764,-16.44 -22.631,-16.452 -22.541,-16.47 -22.48,-16.494 -22.435,-16.526 -22.419,-16.54 -22.32,-16.696 -22.302,-16.874 -22.367,-17.033 -22.398,-17.065 -22.446,-17.096 -22.525,-17.12 -22.647,-17.138 -22.828,-17.151 -23.083,-17.16 -23.425,-17.168 -23.738,-17.172 -24.977,-17.187 -24.994,-17.512 -25.011,-17.836 -24.17,-17.836 -23.805,-17.84 -23.538,-17.853 -23.353,-17.882 -23.236,-17.932 -23.172,-18.008 -23.146,-18.117 -23.142,-18.219 -23.155,-18.343 -23.201,-18.435 -23.297,-18.498 -23.456,-18.539 -23.692,-18.561 -24.02,-18.569 -24.199,-18.57 -25.005,-18.57 -25.005,-19.36 -23.763,-19.36 -23.356,-19.361 -23.047,-19.364 -22.82,-19.369 -22.66,-19.38 -22.553,-19.396 -22.482,-19.419 -22.433,-19.45 -22.408,-19.473 -22.323,-19.608 -22.296,-19.727 -22.335,-19.873 -22.408,-19.981 -22.448,-20.015 -22.498,-20.042 -22.574,-20.061 -22.689,-20.076 -22.856,-20.085 -23.088,-20.09 -23.401,-20.093 -23.807,-20.094 -24.017,-20.094 -24.468,-20.094 -24.82,-20.092 -25.086,-20.088 -25.28,-20.08 -25.415,-20.068 -25.506,-20.051 -25.566,-20.028 -25.609,-19.997 -25.626,-19.981 -25.659,-19.943 -25.685,-19.894 -25.704,-19.821 -25.718,-19.711 -25.728,-19.55 -25.734,-19.326 -25.737,-19.024 -25.738,-18.634 -25.739,-18.27 -25.738,-17.804 -25.737,-17.437 -25.734,-17.157 -25.728,-16.951 -25.718,-16.804 -25.703,-16.705 -25.681,-16.639 -25.653,-16.594 -25.617,-16.556 -25.608,-16.548 -25.565,-16.511 -25.514,-16.482 -25.443,-16.461 -25.337,-16.445 -25.182,-16.435 -24.964,-16.429 -24.669,-16.426 -24.284,-16.425 -24.01,-16.425
  region: 18.723,-16.435 18.821,-16.47 18.825,-16.472 18.958,-16.573 19.031,-16.678 19.046,-16.727 19.045,-16.792 19.025,-16.884 18.981,-17.016 18.908,-17.199 18.803,-17.443 18.661,-17.762 18.477,-18.165 18.376,-18.386 18.193,-18.78 18.022,-19.142 17.868,-19.459 17.738,-19.719 17.64,-19.906 17.578,-20.009 17.566,-20.024 17.411,-20.087 17.236,-20.078 17.095,-20.002 17.089,-19.995 17.033,-19.911 16.94,-19.746 16.819,-19.522 16.684,-19.26 16.636,-19.164 16.27,-18.431 15.871,-19.227 15.729,-19.502 15.597,-19.741 15.486,-19.924 15.407,-20.035 15.38,-20.059 15.171,-20.091 14.999,-20.024 14.949,-19.952 14.861,-19.793 14.744,-19.563 14.604,-19.276 14.448,-18.949 14.284,-18.598 14.119,-18.236 13.959,-17.882 13.813,-17.549 13.687,-17.254 13.588,-17.012 13.524,-16.84 13.501,-16.751 13.501,-16.748 13.557,-16.637 13.667,-16.524 13.674,-16.519 13.809,-16.442 13.935,-16.443 13.982,-16.457 14.039,-16.489 14.1,-16.55 14.172,-16.655 14.262,-16.815 14.377,-17.043 14.525,-17.353 14.659,-17.639 14.812,-17.971 14.95,-18.269 15.065,-18.519 15.149,-18.703 15.196,-18.808 15.203,-18.824 15.233,-18.797 15.304,-18.686 15.405,-18.505 15.528,-18.271 15.576,-18.175 15.741,-17.85 15.868,-17.613 15.968,-17.451 16.051,-17.35 16.128,-17.295 16.208,-17.274 16.261,-17.272 16.353,-17.28 16.435,-17.314 16.515,-17.388 16.606,-17.515 16.719,-17.71 16.863,-17.987 16.943,-18.145 17.073,-18.395 17.186,-18.604 17.272,-18.751 17.322,-18.821 17.329,-18.824 17.361,-18.769 17.434,-18.626 17.539,-18.411 17.669,-18.138 17.818,-17.822 17.891,-17.665 18.081,-17.26 18.235,-16.949 18.359,-16.72 18.462,-16.565 18.551,-16.472 18.636,-16.433
  region: -18.459,-16.432 -18.084,-16.458 -17.737,-16.499 -17.435,-16.553 -17.2,-16.618 -17.052,-16.694 -17.029,-16.716 -16.95,-16.889 -16.974,-17.067 -17.097,-17.219 -17.103,-17.223 -17.175,-17.27 -17.25,-17.294 -17.355,-17.297 -17.516,-17.279 -17.76,-17.241 -17.78,-17.238 -18.144,-17.193 -18.536,-17.171 -18.93,-17.171 -19.297,-17.191 -19.61,-17.232 -19.842,-17.293 -19.857,-17.299 -20.025,-17.393 -20.084,-17.488 -20.038,-17.582 -19.89,-17.672 -19.645,-17.754 -19.305,-17.827 -19.078,-17.862 -18.607,-17.929 -18.233,-17.991 -17.939,-18.052 -17.709,-18.118 -17.528,-18.195 -17.379,-18.286 -17.247,-18.399 -17.141,-18.51 -17.015,-18.664 -16.953,-18.797 -16.934,-18.96 -16.933,-19.02 -16.948,-19.219 -17.006,-19.366 -17.107,-19.497 -17.311,-19.698 -17.539,-19.851 -17.808,-19.961 -18.133,-20.034 -18.534,-20.074 -19.025,-20.086 -19.106,-20.086 -19.434,-20.079 -19.759,-20.064 -20.046,-20.042 -20.26,-20.016 -20.277,-20.013 -20.489,-19.962 -20.669,-19.899 -20.771,-19.841 -20.866,-19.688 -20.872,-19.51 -20.79,-19.351 -20.772,-19.333 -20.697,-19.279 -20.602,-19.256 -20.456,-19.26 -20.278,-19.281 -20.08,-19.299 -19.802,-19.314 -19.477,-19.325 -19.139,-19.331 -19.05,-19.331 -18.711,-19.33 -18.462,-19.323 -18.283,-19.309 -18.151,-19.285 -18.045,-19.249 -17.981,-19.219 -17.84,-19.136 -17.75,-19.061 -17.737,-19.039 -17.765,-18.951 -17.896,-18.866 -18.122,-18.787 -18.434,-18.719 -18.526,-18.704 -19.005,-18.629 -19.388,-18.566 -19.689,-18.511 -19.922,-18.459 -20.103,-18.405 -20.246,-18.346 -20.366,-18.276 -20.478,-18.191 -20.597,-18.087 -20.637,-18.05 -20.777,-17.913 -20.851,-17.805 -20.88,-17.681 -20.884,-17.525 -20.833,-17.219 -20.679,-16.958 -20.423,-16.745 -20.066,-16.579 -19.812,-16.505 -19.535,-16.457 -19.204,-16.43 -18.839,-16.422
  region: 2.188,9.148 2.924,9.067 3.638,8.923 4.357,8.708 5.111,8.414 5.93,8.033 6.078,7.959 6.416,7.793 6.735,7.643 7.003,7.524 7.189,7.45 7.218,7.44 7.492,7.358 6.265,5.574 5.966,5.138 5.691,4.739 5.452,4.392 5.257,4.11 5.116,3.905 5.038,3.793 5.026,3.775 4.974,3.812 4.847,3.924 4.668,4.091 4.569,4.185 4.007,4.631 3.377,4.97 2.834,5.156 2.508,5.215 2.099,5.25 1.657,5.262 1.228,5.25 0.861,5.213 0.715,5.185 0.055,4.958 -0.539,4.612 -1.068,4.146 -1.53,3.563 -1.927,2.861 -2.256,2.043 -2.517,1.108 -2.673,0.307 -2.713,-0.046 -2.741,-0.503 -2.756,-1.029 -2.759,-1.594 -2.749,-2.163 -2.728,-2.703 -2.695,-3.184 -2.65,-3.57 -2.641,-3.629 -2.429,-4.59 -2.141,-5.439 -1.775,-6.183 -1.328,-6.823 -1.011,-7.169 -0.441,-7.64 0.184,-7.988 0.853,-8.213 1.557,-8.312 2.284,-8.285 3.023,-8.128 3.461,-7.974 4.066,-7.666 4.69,-7.225 5.04,-6.926 5.236,-6.753 5.39,-6.626 5.478,-6.565 5.489,-6.563 5.528,-6.626 5.629,-6.791 5.784,-7.044 5.985,-7.372 6.221,-7.76 6.485,-8.193 6.633,-8.435 7.756,-10.281 6.353,-10.974 5.846,-11.223 5.435,-11.419 5.095,-11.573 4.802,-11.693 4.529,-11.79 4.252,-11.873 3.946,-11.953 3.653,-12.022 3.392,-12.076 3.12,-12.117 2.808,-12.147 2.429,-12.168 1.957,-12.183 1.639,-12.189 1.185,-12.194 0.749,-12.192 0.361,-12.183 0.049,-12.17 -0.157,-12.152 -0.169,-12.15 -1.242,-11.918 -2.249,-11.566 -3.19,-11.095 -4.066,-10.504 -4.875,-9.794 -5.617,-8.965 -6.154,-8.228 -6.726,-7.263 -7.189,-6.245 -7.544,-5.164 -7.794,-4.013 -7.941,-2.783 -7.987,-1.534 -7.949,-0.327 -7.83,0.788 -7.625,1.828 -7.33,2.812 -6.943,3.759 -6.897,3.857 -6.387,4.774 -5.761,5.647 -5.037,6.457 -4.232,7.187 -3.364,7.818 -2.555,8.281 -1.738,8.643 -0.919,8.906 -0.066,9.076 0.851,9.16 1.4,9.173
  region: 119 vertices and 1 holes, not listed, extent 23.156,-12.211 38.175,10.161
  region: 125 vertices and 1 holes, not listed, extent 7.723,-12.197 21.918,3.678
  region: 197 vertices and 2 holes, not listed, extent -38.101,-15.02 -9.43,12.564

## KiCad-Logo2_30mm_SilkScreen [mm]
F.SilkS:
  drawing of 17 lines, arcs and shapes, not listed